# EAGLE library part TPS2115A (library trainlib)
Power source select Ideal diode pair selects power source from two alternatives. Truth table: D0=0 selects fixed input. (D1=0 sleects IN2, D1=1 selects IN1) D0=1 selects auto-input. (D1=0 picks higher voltage, D1=1 sets shutdown) http://www.ti.com/lit/ds/symlink/tps2114a.pdf
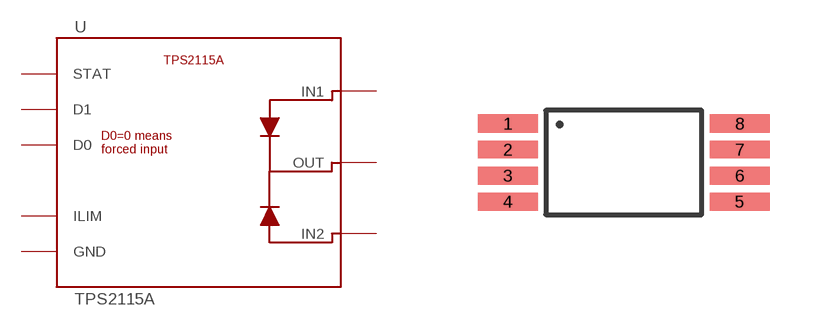
[diagram p10: symbol with the pads of TSSOP-8; footprint TSSOP-8]

Designator prefix -

## TPS2115A  [TSSOP-8]
1  STAT
2  D0
3  D1
4  ILIM
5  GND
6  IN2
7  OUT
8  IN1

## Footprint TSSOP-8 (pad centres in mm)
TSSOP-8 package 0.65mm lead spacing with 4.5mm wide body
smd 1.5 x 0.45: 1 -2.9,0.975; 2 -2.9,0.325; 3 -2.9,-0.325; 4 -2.9,-0.975; 5 2.9,-0.975; 6 2.9,-0.325; 7 2.9,0.325; 8 2.9,0.975